# Altium schematic symbol library MPU GY01.SchLib: 1 symbol
Pins are listed as number, name and electrical type; pins without a type are passive.

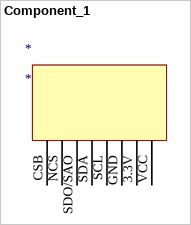
[diagram p0: symbol Component_1]

## Component_1
designator *
footprint MPU GY 91
pins: 3.3V, CSB, GND, NCS, SCL, SDA, SDO/SAO, VCC